# EAGLE library part SPH0645LM4H-B (library microphones)
An I2S microphone down to 20hz
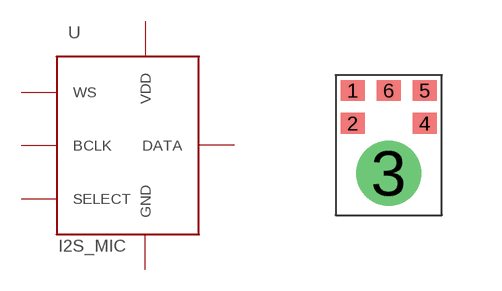
[diagram p0: symbol with the pads of SPH0465; footprint SPH0465]

Designator prefix U

## SPH0645LM4H-B (MANUFACTURER: Knowles; MOUSER: 721-SPH0645LM4H-B; MPN: SPH0645LM4H-B)  [SPH0465]
1  WS
2  SELECT
3  GND
4  BCLK
5  VDD
6  DATA

## Footprint SPH0465 (pad centres in mm)
smd 0.6 x 0.522: 1 -0.9,1.364; 2 -0.9,0.542; 4 0.9,0.542; 5 0.9,1.364; 6 0,1.364
drill 1.024 pad 1.624: 3 0,-0.71